# Altium schematic symbol library RibbonConnector.SchLib: 1 symbol
Pins are listed as number, name and electrical type; pins without a type are passive.

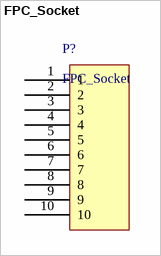
[diagram p0: symbol FPC_Socket]

## FPC_Socket
designator P?
footprint CONNFFCFPC10PIN0_5 (CONN FFC FPC 10POS 0.50MM R/A)
footprint Molex FPC/FFC 10pin (Molex FPC/FFC 10pin Non-ZIF Connector 10pin)
pins: 1, 2, 3, 4, 5, 6, 7, 8, 9, 10